# Altium integrated library AqOST_Guppy.IntLib: 7 symbols
Pins are listed as number, name and electrical type; pins without a type are passive.

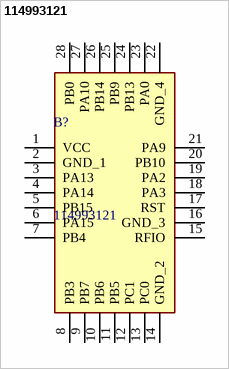
[diagram p0: symbol 114993121]

## 114993121
designator B?
General ISM < 1GHz LoRaWAN Transceiver Module 868MHz, 915MHz Antenna Not Included Surface Mount; Manufacturer_Name: Seeed Studio; Geometry.Height: 2.7mm; Mouser Part Number: 713-114993121; Mouser Price/Stock: https://www.mouser.co.uk/ProductDetail/Seeed-Studio/114993121?qs=QpmGXVUTftF1SD6oRXq2Mw%3D%3D; Manufacturer_Part_Number: 114993121; Datasheet Link: https://files.seeedstudio.com/products/114993120/Wio-E5-LE%20module%20datasheet_v1.0.pdf
footprint 114993121
pins: 1 VCC, 2 GND_1, 3 PA13, 4 PA14, 5 PB15, 6 PA15, 7 PB4, 8 PB3, 9 PB7, 10 PB6, 11 PB5, 12 PC1, 13 PC0, 14 GND_2, 15 RFIO, 16 GND_3, 17 RST, 18 PA3, 19 PA2, 20 PB10, 21 PA9, 22 GND_4, 23 PA0, 24 PB13, 25 PB9, 26 PB14, 27 PA10, 28 PB0


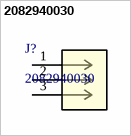
[diagram p1: symbol 2082940030]

## 2082940030
designator J?
Pico-EZmate HC PCB Header, 1.80mm Pitch, Single Row, Gold (Au) Plating, 3 Circuits; Manufacturer_Name: Molex Connector Corporation; Copyright: Copyright (C) 2025 Ultra Librarian. All rights reserved.; Manufacturer_Part_Number: 2082940030; RefDes: RefDes; Type: Type
footprint CONN_2082940000-SD_03_MOL
pins: 1, 2, 3


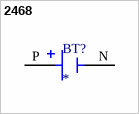
[diagram p2: symbol 2468]

## 2468
designator BT?
Battery Holder, THM, 2 Cell, Cell Size AAA, Plastic | Keystone Electronics 2468; MP: 2468; SnapEDA_Link: https://www.snapeda.com/parts/2468/Keystone/view-part/?ref=snap; Package: None; Value: *; MF: Keystone Electronics; Check_prices: https://www.snapeda.com/parts/2468/Keystone/view-part/?ref=eda
footprint BAT_2468
pins: N NEG, P POS


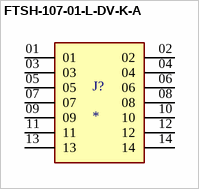
[diagram p3: symbol FTSH-107-01-L-DV-K-A]

## FTSH-107-01-L-DV-K-A
designator J?
Connector Header Surface Mount 14 position 0.050 (1.27mm); MF: Samtec Inc.; MP: FTSH-107-01-L-DV-K-A; SnapEDA_Link: https://www.snapeda.com/parts/FTSH-107-01-L-DV-K-A/Samtec+Inc./view-part/?ref=snap; Package: None; Value: *; Check_prices: https://www.snapeda.com/parts/FTSH-107-01-L-DV-K-A/Samtec+Inc./view-part/?ref=eda
footprint SAMTEC_FTSH-107-01-L-DV-K-A
pins: 01, 02, 03, 04, 05, 06, 07, 08, 09, 10, 11, 12, 13, 14


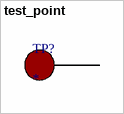
[diagram p4: symbol test_point]

## test_point
designator TP?
footprint test_point
pins: 0


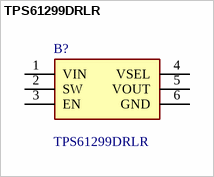
[diagram p5: symbol TPS61299DRLR]

## TPS61299DRLR
designator B?
Switching Voltage Regulators 95nA quiescent current, 5.5V boost converter with input current limit and fast transient performance; Manufacturer_Name: Texas Instruments; Geometry.Height: 0.6mm; Mouser Part Number: 595-TPS61299DRLR; Mouser Price/Stock: https://www.mouser.co.uk/ProductDetail/Texas-Instruments/TPS61299DRLR?qs=IKkN%2F947nfBTwsVxPXoKBw%3D%3D; Manufacturer_Part_Number: TPS61299DRLR; Datasheet Link: https://www.ti.com/lit/ds/symlink/tps61299.pdf?ts=1731385304163
footprint SOTFL50P160X60-6N
pins: 1 VIN, 2 SW, 3 EN, 4 VSEL, 5 VOUT, 6 GND


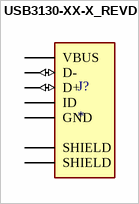
[diagram p6: symbol USB3130-XX-X_REVD]

## USB3130-XX-X_REVD
designator J?
USB - micro B USB 2.0 Receptacle Connector 5 Position Through Hole; MP: USB3130-30-A; MF: Global Connector Technology; Availability: In Stock; Package: None; SnapEDA_Link: https://www.snapeda.com/parts/USB3130-30-A/Global+Connector+Technology/view-part/?ref=snap; Price: None; Value: *; Check_prices: https://www.snapeda.com/parts/USB3130-30-A/Global+Connector+Technology/view-part/?ref=eda
footprint GCT_USB3130-XX-X_REVD
pins: 1 VBUS (power), 2 D- (io), 3 D+ (io), 4 ID, 5 GND (power), 6 SHIELD, 7 SHIELD